# Altium footprint library inductor.PcbLib: 4 footprints
Each footprint in its own frame and in the unit in brackets; x right, y up, seen from the top. Pads: shape width x height; smd on the part's side, far side on the other; paste and mask are expansions set on the pad; w line width, h text height; cw(c..) or ccw(c..) is an arc to the next point about the centre after c.
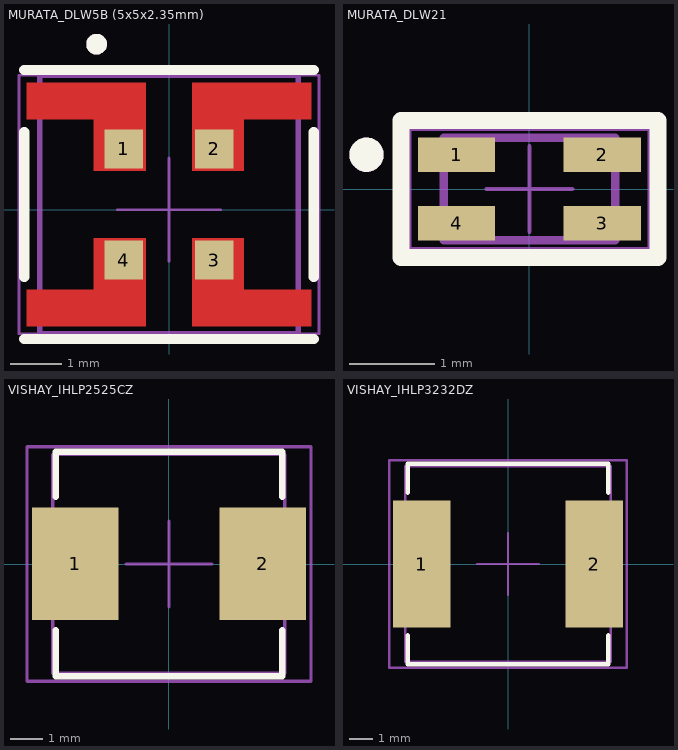
[diagram p0: the footprints below, top view; thin cyan lines are the x and y axes]

## MURATA_DLW5B (5x5x2.35mm) [mm]
pads (4):
  rect 0.75x0.75 smd: 1(-0.875,1.175) 2(0.875,1.175) 3(0.875,-0.975) 4(-0.875,-0.975)
Top Layer:
  region: 0.45,2.45 2.75,2.45 2.75,1.75 1.45,1.75 1.45,0.75 0.45,0.75
  region: 0.45,-0.55 1.45,-0.55 1.45,-1.55 2.75,-1.55 2.75,-2.25 0.45,-2.25
  region: -1.45,1.75 -2.75,1.75 -2.75,2.45 -0.45,2.45 -0.45,0.75 -1.45,0.75
  region: -2.75,-1.55 -1.45,-1.55 -1.45,-0.55 -0.45,-0.55 -0.45,-2.25 -2.75,-2.25
Top Overlay:
  circle w0.2: c-1.4,3.2 r0.1
  lines w0.2: -2.8,-2.5 2.8,-2.5 ; -2.8,-1.3 -2.8,1.5 ; -2.8,2.7 2.8,2.7 ; 2.8,-1.3 2.8,1.5
Top Paste:
  region: 0.45,2.45 2.75,2.45 2.75,1.75 1.45,1.75 1.45,0.75 0.45,0.75
  region: 0.45,-0.55 1.45,-0.55 1.45,-1.55 2.75,-1.55 2.75,-2.25 0.45,-2.25
  region: -1.45,1.75 -2.75,1.75 -2.75,2.45 -0.45,2.45 -0.45,0.75 -1.45,0.75
  region: -2.75,-1.55 -1.45,-1.55 -1.45,-0.55 -0.45,-0.55 -0.45,-2.25 -2.75,-2.25
Top Solder:
  region: 0.35,2.55 2.85,2.55 2.85,1.65 1.55,1.65 1.55,0.65 0.35,0.65
  region: 0.35,-0.45 1.55,-0.45 1.55,-1.45 2.85,-1.45 2.85,-2.35 0.35,-2.35
  region: -1.55,1.65 -2.85,1.65 -2.85,2.55 -0.35,2.55 -0.35,0.65 -1.55,0.65
  region: -2.85,-1.45 -1.55,-1.45 -1.55,-0.45 -0.35,-0.45 -0.35,-2.35 -2.85,-2.35
Mechanical 1:
  circle w0.2: c-1.4,3.2 r0.1
  lines w0.1: -2.5,-2.4 2.5,-2.4 2.5,2.6 -2.5,2.6 -2.5,-2.4
Mechanical 15:
  lines w0.05: -1,0 1,0 ; 0,-1 0,1 ; -2.9,-2.4 2.9,-2.4 2.9,2.6 -2.9,2.6 -2.9,-2.4
3D body "DLW5BTM501SQ2L--3DModel-STEP-1.STEP": height 2.5, standoff 0, extent -2.5,-2.4 2.5,2.6

## MURATA_DLW21 [mm]
pads (4):
  rect 0.9x0.4 smd: 1(-0.85,0.4) 2(0.85,0.4) 3(0.85,-0.4) 4(-0.85,-0.4)
Top Overlay:
  circle w0.2: c-1.9,0.4 r0.1
  lines w0.2: -1.5,-0.8 -1.5,0.8 1.5,0.8 1.5,-0.8 -1.5,-0.8
Top Paste:
  region: -0.4,0.25 -1.3,0.25 -1.3,0.6 -0.4,0.6
  region: 1.3,0.25 0.4,0.25 0.4,0.6 1.3,0.6
  region: 1.3,-0.6 0.4,-0.6 0.4,-0.25 1.3,-0.25
  region: -0.4,-0.6 -1.3,-0.6 -1.3,-0.25 -0.4,-0.25
Mechanical 1:
  circle w0.2: c-1.9,0.4 r0.1
  lines w0.1: -1,-0.6 1,-0.6 1,0.6 -1,0.6 -1,-0.6
Mechanical 15:
  lines w0.05: -0.5,0 0.5,0 ; 0,-0.5 0,0.5 ; -1.4,-0.7 -1.4,0.7 1.4,0.7 1.4,-0.7 -1.4,-0.7
3D body "step_temp.STEP": height 1.4, standoff 0, extent -1,-0.6 1,0.6

## VISHAY_IHLP2525CZ [mil]
pads (2):
  rect 103.75x135 smd: 1(-112.34,0.43) 2(112.41,0.43)
Top Overlay:
  lines w7.87: -135.81,-79.72 -135.81,-134.84 135.81,-134.84 135.81,-79.72 ; -135.82,80.71 -135.82,134.84 135.81,134.84 135.81,80.71
Mechanical 1:
  lines w3.94: -139.29,-130.92 138.98,-130.92 138.98,131.22 -139.29,131.22 -139.29,-130.92
Mechanical 15:
  lines w3.94: -51.18,0 51.18,0 ; 0,-51.18 0,51.18 ; -170.28,-140.75 170.28,-140.75 170.28,140.75 -170.28,140.75 -170.28,-140.75
3D body "IHLP2525CZ.STEP": height 115.55, standoff 2.05, extent -139.31,-131.44 139.29,131.16

## VISHAY_IHLP3232DZ [mil]
pads (2):
  rect 95x210 smd: 1(-142.48,0) 2(142.48,0)
Top Overlay:
  lines w7.87: -165.4,-118.11 -165.4,-165.35 165.31,-165.35 165.31,-118.11 ; -165.35,118.11 -165.35,165.35 165.29,165.35 165.29,118.11
Mechanical 1:
  lines w3.94: -169.29,-161.02 169.29,-161.02 169.29,161.02 -169.29,161.02 -169.29,-161.02
Mechanical 15:
  lines w3.94: -51.18,0 51.18,0 ; 0,-51.18 0,51.18 ; -195.87,-171.26 195.87,-171.26 195.87,171.26 -195.87,171.26 -195.87,-171.26
3D body "IHLP3232DZ.STEP": height 152.5, standoff -1, extent -169.29,-161.29 169.31,161.31